# EAGLE library part LM324 (library Projeto_Nicolau)
LM324 - 6 amplificadores opracionais
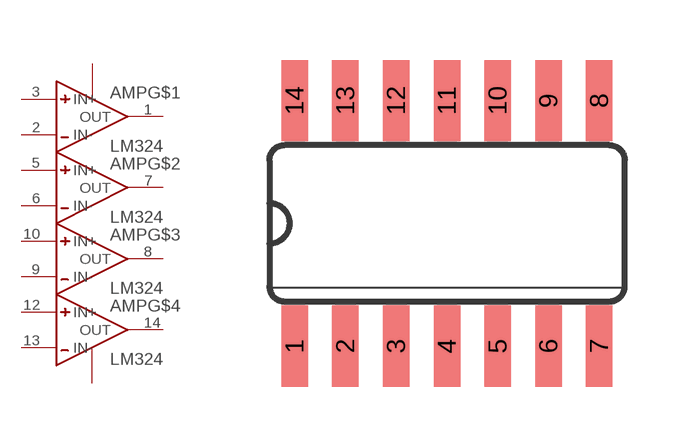
[diagram p1: symbol with the pads of SO14; footprint SO14]

Designator prefix AMP; gates G$1=AMPOP G$2=AMPOPMIDDLE G$3=AMPOPMIDDLE G$4=AMPOPGND

## LM324  [SO14]
1  G$1:OUT  out
2  G$1:IN-  in
3  G$1:IN+  in
4  G$1:VCC  pwr
5  G$2:IN+  in
6  G$2:IN-  in
7  G$2:OUT  out
8  G$3:OUT  out
9  G$3:IN-  in
10  G$3:IN+  in
11  G$4:GND/VDD  pwr
12  G$4:IN+  in
13  G$4:IN-  in
14  G$4:OUT  out

## Footprint SO14 (pad centres in mm)
smd 0.66 x 2.032: 1 -3.81,-3.073; 2 -2.54,-3.073; 3 -1.27,-3.073; 4 0,-3.073; 5 1.27,-3.073; 6 2.54,-3.073; 7 3.81,-3.073; 8 3.81,3.073; 9 2.54,3.073; 10 1.27,3.073; 11 0,3.073; 12 -1.27,3.073; 13 -2.54,3.073; 14 -3.81,3.073